# EAGLE library part WT32 (library Sparky)
WT32 is a Bluetooth 2.1 + EDR module dedicated for Bluetooth audio applications In addition to Bluetooth radio, antenna and iWRAP Bluetooth stack, WT32 contains a DSP processor, a stereo audio codec and a battery charger making it ideal for portable battery Bluetooth stereo or hands-free audio applications. WT32 provides an ideal solution for developers that want to quickly integrate latest Bluetooth audio technologies into their design without investing several months into Bluetooth radio and stack development.
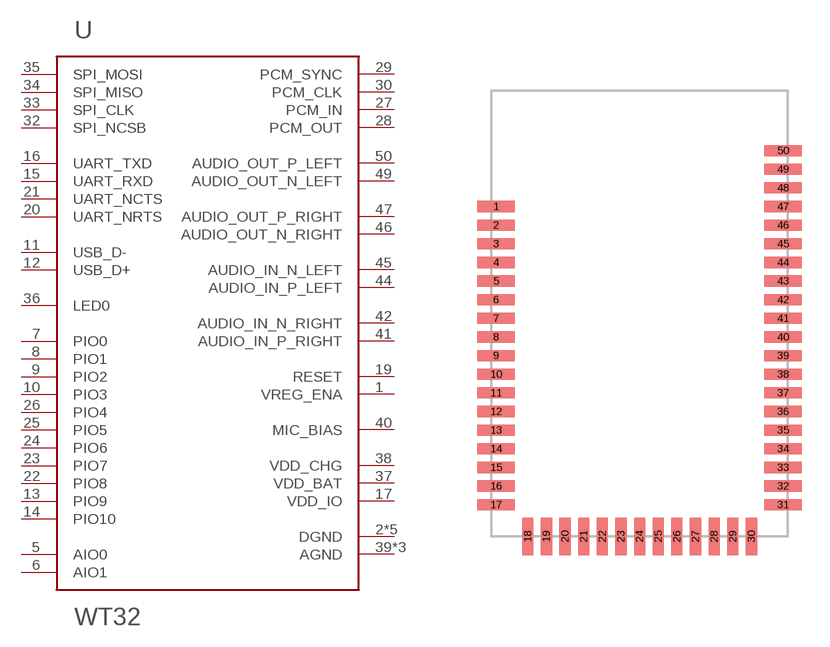
[diagram p15: symbol with the pads of WT32-A/E; footprint WT32-A/E]

Designator prefix -

## WT32WT32-A/E  [WT32-A/E]
1  VREG_ENA  in
2  DGND  pwr
3  DGND  pwr
4  DGND  pwr
5  AIO0
6  AIO1
7  PIO0
8  PIO1
9  PIO2
10  PIO3
11  USB_D-
12  USB_D+
13  PIO9
14  PIO10
15  UART_RXD  in
16  UART_TXD  out
17  VDD_IO  pwr
18  DGND  pwr
19  RESET  in
20  UART_NRTS
21  UART_NCTS
22  PIO8
23  PIO7
24  PIO6
25  PIO5
26  PIO4
27  PCM_IN
28  PCM_OUT
29  PCM_SYNC
30  PCM_CLK
31  DGND  pwr
32  SPI_NCSB
33  SPI_CLK
34  SPI_MISO
35  SPI_MOSI
36  LED0
37  VDD_BAT  pwr
38  VDD_CHG  pwr
39  AGND  pwr
40  MIC_BIAS
41  AUDIO_IN_P_RIGHT  in
42  AUDIO_IN_N_RIGHT  in
43  AGND  pwr
44  AUDIO_IN_P_LEFT  in
45  AUDIO_IN_N_LEFT  in
46  AUDIO_OUT_N_RIGHT  out
47  AUDIO_OUT_P_RIGHT  out
48  AGND  pwr
49  AUDIO_OUT_N_LEFT  out
50  AUDIO_OUT_P_LEFT  out

## Footprint WT32-A/E (pad centres in mm)
smd 2 x 0.6: 1 -7.7,17.7; 2 -7.7,16.7; 3 -7.7,15.7; 4 -7.7,14.7; 5 -7.7,13.7; 6 -7.7,12.7; 7 -7.7,11.7; 8 -7.7,10.7; 9 -7.7,9.7; 10 -7.7,8.7; 11 -7.7,7.7; 12 -7.7,6.7; 13 -7.7,5.7; 14 -7.7,4.7; 15 -7.7,3.7; 16 -7.7,2.7; 17 -7.7,1.7; 31 7.7,1.7; 32 7.7,2.7; 33 7.7,3.7; 34 7.7,4.7; 35 7.7,5.7; 36 7.7,6.7; 37 7.7,7.7; 38 7.7,8.7; 39 7.7,9.7; 40 7.7,10.7; 41 7.7,11.7; 42 7.7,12.7; 43 7.7,13.7; 44 7.7,14.7; 45 7.7,15.7; 46 7.7,16.7; 47 7.7,17.7; 48 7.7,18.7; 49 7.7,19.7; 50 7.7,20.7
smd 0.6 x 2: 18 -6,0; 19 -5,0; 20 -4,0; 21 -3,0; 22 -2,0; 23 -1,0; 24 0,0; 25 1,0; 26 2,0; 27 3,0; 28 4,0; 29 5,0; 30 6,0